# EAGLE library part XC4003_84 (library untitled)
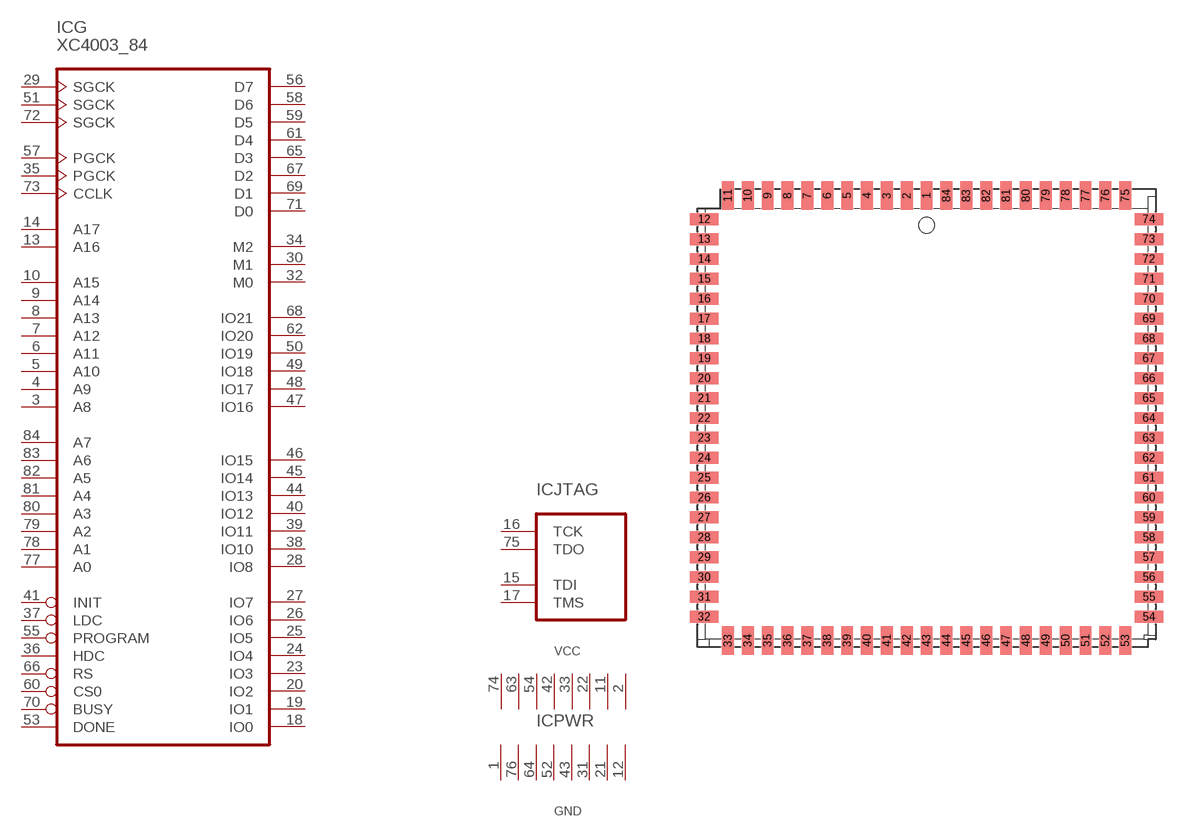
[diagram p0: symbol with the pads of PLCC84; footprint PLCC84]

Designator prefix IC; gates G=X4003_84 PWR=PWR JTAG=JTAG

## XC4003_84  [PLCC84]
1  PWR:GND  pwr
2  PWR:VCC  pwr
3  G:A8
4  G:A9
5  G:A10
6  G:A11
7  G:A12
8  G:A13
9  G:A14
10  G:A15
11  PWR:VCC  pwr
12  PWR:GND  pwr
13  G:A16
14  G:A17
15  JTAG:TDI  in
16  JTAG:TCK  in
17  JTAG:TMS  in
18  G:IO0
19  G:IO1
20  G:IO2
21  PWR:GND  pwr
22  PWR:VCC  pwr
23  G:IO3
24  G:IO4
25  G:IO5
26  G:IO6
27  G:IO7
28  G:IO8
29  G:SGCK  in
30  G:M1  out
31  PWR:GND  pwr
32  G:M0  out
33  PWR:VCC  pwr
34  G:M2  out
35  G:PGCK
36  G:HDC  in
37  G:LDC  in
38  G:IO10
39  G:IO11
40  G:IO12
41  G:INIT  in
42  PWR:VCC  pwr
43  PWR:GND  pwr
44  G:IO13
45  G:IO14
46  G:IO15
47  G:IO16
48  G:IO17
49  G:IO18
50  G:IO19
51  G:SGCK  in
52  PWR:GND  pwr
53  G:DONE  in
54  PWR:VCC  pwr
55  G:PROGRAM  in
56  G:D7
57  G:PGCK  in
58  G:D6
59  G:D5
60  G:CS0  out
61  G:D4
62  G:IO20
63  PWR:VCC  pwr
64  PWR:GND  pwr
65  G:D3
66  G:RS  in
67  G:D2
68  G:IO21
69  G:D1
70  G:BUSY  in
71  G:D0
72  G:SGCK  in
73  G:CCLK  in
74  PWR:VCC  pwr
75  JTAG:TDO  out
76  PWR:GND  pwr
77  G:A0
78  G:A1
79  G:A2
80  G:A3
81  G:A4
82  G:A5
83  G:A6
84  G:A7

## Footprint PLCC84 (pad centres in mm)
smd 0.76 x 1.8: 1 0,12.94; 2 -1.27,12.94; 3 -2.54,12.94; 4 -3.81,12.94; 5 -5.08,12.94; 6 -6.35,12.94; 7 -7.62,12.94; 8 -8.89,12.94; 9 -10.16,12.94; 10 -11.43,12.94; 11 -12.7,12.94; 33 -12.7,-15.48; 34 -11.43,-15.48; 35 -10.16,-15.48; 36 -8.89,-15.48; 37 -7.62,-15.48; 38 -6.35,-15.48; 39 -5.08,-15.48; 40 -3.81,-15.48; 41 -2.54,-15.48; 42 -1.27,-15.48; 43 0,-15.48; 44 1.27,-15.48; 45 2.54,-15.48; 46 3.81,-15.48; 47 5.08,-15.48; 48 6.35,-15.48; 49 7.62,-15.48; 50 8.89,-15.48; 51 10.16,-15.48; 52 11.43,-15.48; 53 12.7,-15.48; 75 12.7,12.94; 76 11.43,12.94; 77 10.16,12.94; 78 8.89,12.94; 79 7.62,12.94; 80 6.35,12.94; 81 5.08,12.94; 82 3.81,12.94; 83 2.54,12.94; 84 1.27,12.94
smd 1.8 x 0.76: 12 -14.21,11.43; 13 -14.21,10.16; 14 -14.21,8.89; 15 -14.21,7.62; 16 -14.21,6.35; 17 -14.21,5.08; 18 -14.21,3.81; 19 -14.21,2.54; 20 -14.21,1.27; 21 -14.21,0; 22 -14.21,-1.27; 23 -14.21,-2.54; 24 -14.21,-3.81; 25 -14.21,-5.08; 26 -14.21,-6.35; 27 -14.21,-7.62; 28 -14.21,-8.89; 29 -14.21,-10.16; 30 -14.21,-11.43; 31 -14.21,-12.7; 32 -14.21,-13.97; 54 14.21,-13.97; 55 14.21,-12.7; 56 14.21,-11.43; 57 14.21,-10.16; 58 14.21,-8.89; 59 14.21,-7.62; 60 14.21,-6.35; 61 14.21,-5.08; 62 14.21,-3.81; 63 14.21,-2.54; 64 14.21,-1.27; 65 14.21,0; 66 14.21,1.27; 67 14.21,2.54; 68 14.21,3.81; 69 14.21,5.08; 70 14.21,6.35; 71 14.21,7.62; 72 14.21,8.89; 73 14.21,10.16; 74 14.21,11.43